# Altium schematic symbol library IC. RF transceiver.SchLib: 7 symbols
Pins are listed as number, name and electrical type; pins without a type are passive.

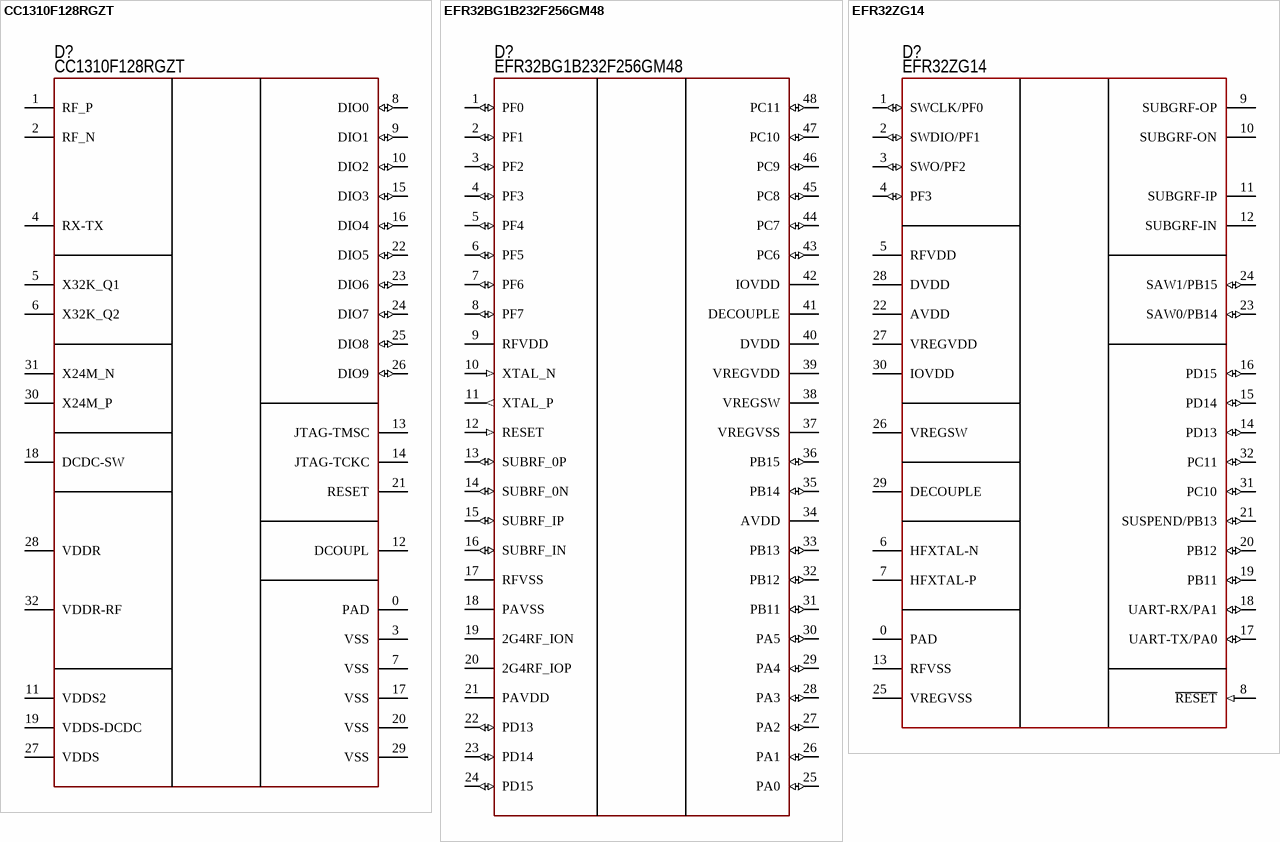
[diagram p0: symbols CC1310F128RGZT to EFR32ZG14]

## CC1310F128RGZT
designator D?  PartNumber: CC1310F128RGZT
SUB; Manufacturer: Texas Instruments; ValueManufacturerPartNumber: IC RF transceiver, 300...930 MHz, 32-Bit, Cortex-M3, core 48 MHz, 128KB, 20KB, 1.8...3.8V, -40...+85°C, 48-VFQFN; Supply: 1.8...3.8V; CoreSpeed: core 48 MHz; CoreSize: 32-Bit; MemoryROM: 128KB; MemoryRAM: 20KB; CoreProcessor: Cortex-M3; Frequency: 300...930 MHz; HelpURL: https://www.digikey.com/product-detail/en/texas-instruments/CC1310F128RGZT/296-42989-1-ND/5641860; Package: 48-VFQFN; ComponentType: IC RF transceiver; Temperature: -40...+85°C
footprint 48-QFN (7x7) (7x7 mm, pitch 0.5 mm, power pad)
pins: 0 PAD, 1 RF_P, 2 RF_N, 3 VSS, 4 RX-TX, 5 X32K_Q1, 6 X32K_Q2, 7 VSS, 8 DIO0 (io), 9 DIO1 (io), 10 DIO2 (io), 11 VDDS2, 12 DCOUPL, 13 JTAG-TMSC, 14 JTAG-TCKC, 15 DIO3 (io), 16 DIO4 (io), 17 VSS, 18 DCDC-SW, 19 VDDS-DCDC, 20 VSS, 21 RESET, 22 DIO5 (io), 23 DIO6 (io), 24 DIO7 (io), 25 DIO8 (io), 26 DIO9 (io), 27 VDDS, 28 VDDR, 29 VSS, 30 X24M_P, 31 X24M_N, 32 VDDR-RF

## EFR32BG1B232F256GM48
designator D?  PartNumber: EFR32BG1B232F256GM48
BLE+SUB; Manufacturer: Silicon Labs; ValueManufacturerPartNumber: IC RF transceiver, 169...930 MHz / BLE4.0, 32-Bit, Cortex-M4, core 48 MHz, 256KB, 32KB, 1.85...3.8V, -40...+85°C, 48-VFQFN; Supply: 1.85...3.8V; CoreSpeed: core 48 MHz; CoreSize: 32-Bit; MemoryROM: 256KB; MemoryRAM: 32KB; CoreProcessor: Cortex-M4; Frequency: 169...930 MHz / BLE4.0; HelpURL: https://www.digikey.com/product-detail/en/silicon-labs/EFR32BG1B232F256GM48-C0/336-3745-ND/6123008; Package: 48-VFQFN; ComponentType: IC RF transceiver; Temperature: -40...+85°C
footprint 48-QFN (7x7) (7x7 mm, pitch 0.5 mm, power pad)
pins: 1 PF0 (io), 2 PF1 (io), 3 PF2 (io), 4 PF3 (io), 5 PF4 (io), 6 PF5 (io), 7 PF6 (io), 8 PF7 (io), 9 RFVDD, 10 XTAL_N (in), 11 XTAL_P (out), 12 RESET (in), 13 SUBRF_0P (io), 14 SUBRF_0N (io), 15 SUBRF_IP (io), 16 SUBRF_IN (io), 17 RFVSS, 18 PAVSS, 19 2G4RF_ION, 20 2G4RF_IOP, 21 PAVDD, 22 PD13 (io), 23 PD14 (io), 24 PD15 (io), 25 PA0 (io), 26 PA1 (io), 27 PA2 (io), 28 PA3 (io), 29 PA4 (io), 30 PA5 (io), 31 PB11 (io), 32 PB12 (io), 33 PB13 (io), 34 AVDD, 35 PB14 (io), 36 PB15 (io), 37 VREGVSS, 38 VREGSW, 39 VREGVDD, 40 DVDD, 41 DECOUPLE, 42 IOVDD, 43 PC6 (io), 44 PC7 (io), 45 PC8 (io), 46 PC9 (io), 47 PC10 (io), 48 PC11 (io)

## EFR32ZG14
designator D?  PartNumber: EFR32ZG14
SUB; Manufacturer: Silicon Labs; ValueManufacturerPartNumber: IC RF transceiver, Z-Wave, 863...930 MHz, 32-Bit, Cortex-M3, 256KB, 32KB, 1.8...3.8V, -40...+85°C, 32-VFQFN; Supply: 1.8...3.8V; CoreSpeed: 48 MHz; CoreSize: 32-Bit; MemoryROM: 256KB; MemoryRAM: 32KB; CoreProcessor: Cortex-M3; Frequency: 863...930 MHz; TypeProtocol: Z-Wave; HelpURL: https://www.digikey.com/product-detail/en/texas-instruments/CC1310F128RGZT/296-42989-1-ND/5641860; Package: 32-VFQFN; ComponentType: IC RF transceiver; Temperature: -40...+85°C
footprint 32-QFN (5x5 mm, pitch 0.5 mm, power pad)
pins: 0 PAD, 1 SWCLK/PF0 (io), 2 SWDIO/PF1 (io), 3 SWO/PF2 (io), 4 PF3 (io), 5 RFVDD, 6 HFXTAL-N, 7 HFXTAL-P, 8 ~{RESET} (in), 9 SUBGRF-OP, 10 SUBGRF-ON, 11 SUBGRF-IP, 12 SUBGRF-IN, 13 RFVSS, 14 PD13 (io), 15 PD14 (io), 16 PD15 (io), 17 UART-TX/PA0 (io), 18 UART-RX/PA1 (io), 19 PB11 (io), 20 PB12 (io), 21 SUSPEND/PB13 (io), 22 AVDD, 23 SAW0/PB14 (io), 24 SAW1/PB15 (io), 25 VREGVSS, 26 VREGSW, 27 VREGVDD, 28 DVDD, 29 DECOUPLE, 30 IOVDD, 31 PC10 (io), 32 PC11 (io)

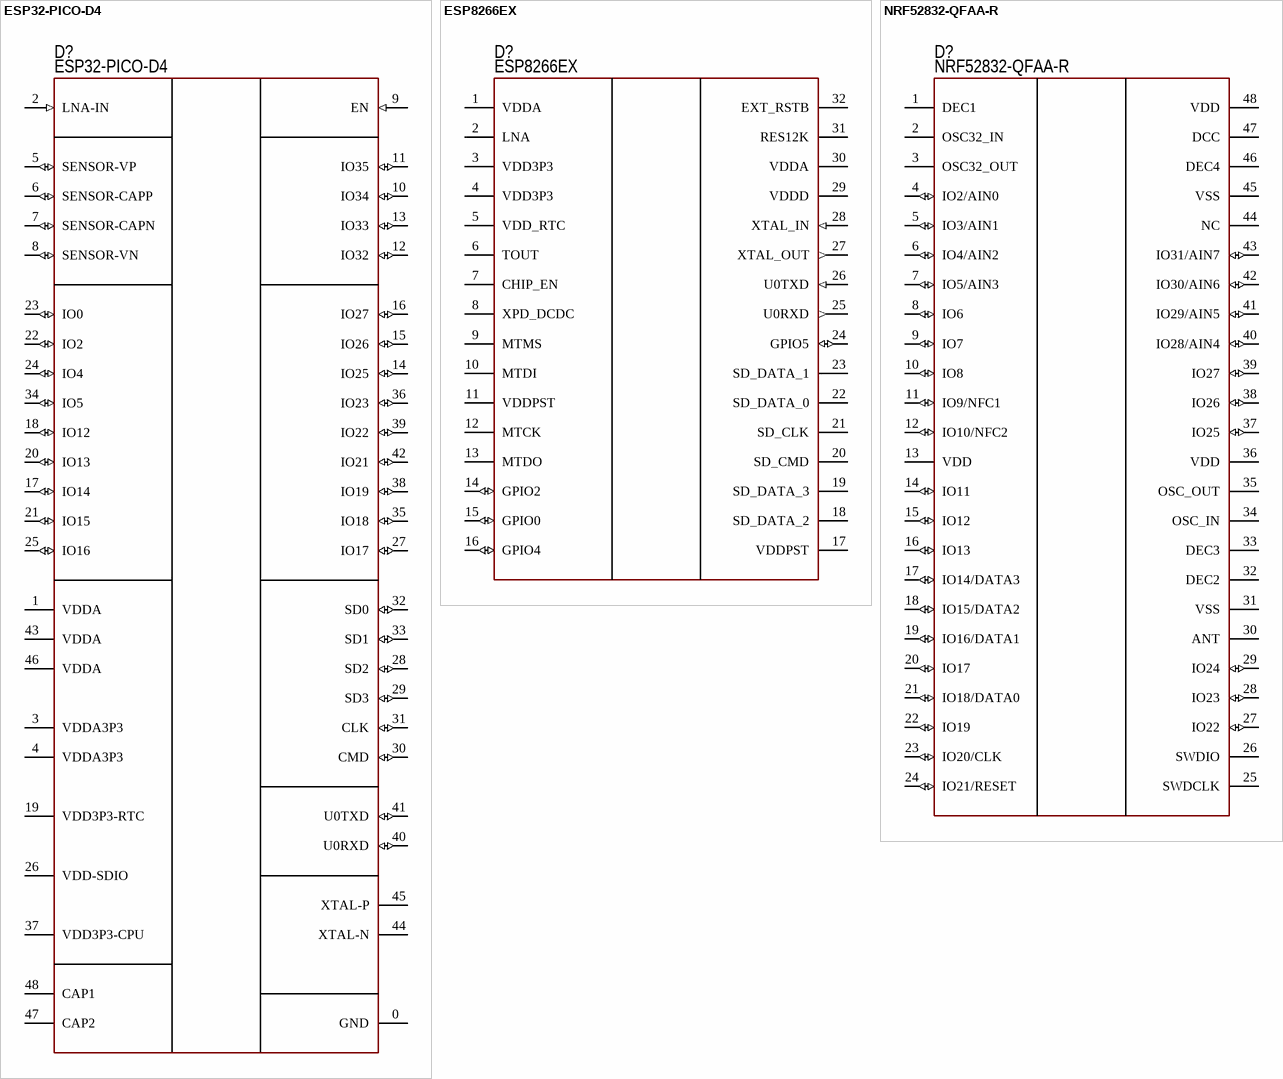
[diagram p1: symbols ESP32-PICO-D4 to NRF52832-QFAA-R]

## ESP32-PICO-D4
designator D?  PartNumber: ESP32-PICO-D4
Wi-Fi+BT; Manufacturer: Espressif Systems; ValueManufacturerPartNumber: IC RF transceiver, 802.11b/g/n + Bluetooth v4.2, 2.4GHz, 32-Bit, Xtensa LX6, 4Mb, 520KB, 2.7...3.6V, -40...+85°C, 48-LGA; Supply: 2.7...3.6V; CoreSpeed: 600 DMIPS; CoreSize: 32-Bit; MemoryROM: 4Mb; MemoryRAM: 520KB; CoreProcessor: Xtensa LX6; Frequency: 2.4GHz; TypeProtocol: 802.11b/g/n + Bluetooth v4.2; HelpURL: https://www.digikey.com/product-detail/en/espressif-systems/ESP32-PICO-D4/1904-1029-1-ND/9381738; Package: 48-LGA; ComponentType: IC RF transceiver; Temperature: -40...+85°C
footprint 48-LGA (7x7) (7x7 mm, pitch 0.5 mm, power pad)
pins: 0 GND, 1 VDDA, 2 LNA-IN (in), 3 VDDA3P3, 4 VDDA3P3, 5 SENSOR-VP (io), 6 SENSOR-CAPP (io), 7 SENSOR-CAPN (io), 8 SENSOR-VN (io), 9 EN (in), 10 IO34 (io), 11 IO35 (io), 12 IO32 (io), 13 IO33 (io), 14 IO25 (io), 15 IO26 (io), 16 IO27 (io), 17 IO14 (io), 18 IO12 (io), 19 VDD3P3-RTC, 20 IO13 (io), 21 IO15 (io), 22 IO2 (io), 23 IO0 (io), 24 IO4 (io), 25 IO16 (io), 26 VDD-SDIO, 27 IO17 (io), 28 SD2 (io), 29 SD3 (io), 30 CMD (io), 31 CLK (io), 32 SD0 (io), 33 SD1 (io), 34 IO5 (io), 35 IO18 (io), 36 IO23 (io), 37 VDD3P3-CPU, 38 IO19 (io), 39 IO22 (io), 40 U0RXD (io), 41 U0TXD (io), 42 IO21 (io), 43 VDDA, 44 XTAL-N, 45 XTAL-P, 46 VDDA, 47 CAP2, 48 CAP1

## ESP8266EX
designator D?  PartNumber: ESP8266EX
Wi-Fi; Manufacturer: Espressif Systems; ValueManufacturerPartNumber: IC RF transceiver, 802.11b/g/n, 2.4GHz, 32-Bit, Cortex-M3, External FLASH, 50KB, 2.5...3.6V, -40...+85°C, 32-VFQFN; Supply: 2.5...3.6V; CoreSpeed: 160 MHz; CoreSize: 32-Bit; MemoryROM: External FLASH; MemoryRAM: 50KB; CoreProcessor: Cortex-M3; Frequency: 2.4GHz; TypeProtocol: 802.11b/g/n; HelpURL: https://www.digikey.com/product-detail/en/espressif-systems/ESP8266EX/1904-1001-1-ND/8028408; Package: 32-VFQFN; ComponentType: IC RF transceiver; Temperature: -40...+85°C
footprint 32-QFN (5x5 mm, pitch 0.5 mm, power pad)
pins: 1 VDDA, 2 LNA, 3 VDD3P3, 4 VDD3P3, 5 VDD_RTC, 6 TOUT, 7 CHIP_EN, 8 XPD_DCDC, 9 MTMS, 10 MTDI, 11 VDDPST, 12 MTCK, 13 MTDO, 14 GPIO2 (io), 15 GPIO0 (io), 16 GPIO4 (io), 17 VDDPST, 18 SD_DATA_2, 19 SD_DATA_3, 20 SD_CMD, 21 SD_CLK, 22 SD_DATA_0, 23 SD_DATA_1, 24 GPIO5 (io), 25 U0RXD (out), 26 U0TXD (in), 27 XTAL_OUT (out), 28 XTAL_IN (in), 29 VDDD, 30 VDDA, 31 RES12K, 32 EXT_RSTB

## NRF52832-QFAA-R
designator D?  PartNumber: NRF52832-QFAA-R
BLE; Manufacturer: Nordic Semiconductor; ValueManufacturerPartNumber: IC RF transceiver, 2.4 GHz (BLE v4.1), 32-Bit, Cortex-M4, 64 MHz, 512KB, 64KB, 1.7...3.6V, -40...+85°C, 48-VFQFN; Supply: 1.7...3.6V; CoreSpeed: 64 MHz; CoreSize: 32-Bit; MemoryROM: 512KB; MemoryRAM: 64KB; CoreProcessor: Cortex-M4; Frequency: 2.4 GHz (BLE v4.1); HelpURL: https://www.digikey.com/product-detail/en/nordic-semiconductor-asa/NRF52832-QFAA-R/1490-1052-1-ND/5428660; Package: 48-VFQFN; ComponentType: IC RF transceiver; Temperature: -40...+85°C
footprint 48-QFN (6x6) (6x6 mm, pitch 0.4 mm, power pad)
pins: 1 DEC1, 2 OSC32_IN, 3 OSC32_OUT, 4 IO2/AIN0 (io), 5 IO3/AIN1 (io), 6 IO4/AIN2 (io), 7 IO5/AIN3 (io), 8 IO6 (io), 9 IO7 (io), 10 IO8 (io), 11 IO9/NFC1 (io), 12 IO10/NFC2 (io), 13 VDD, 14 IO11 (io), 15 IO12 (io), 16 IO13 (io), 17 IO14/DATA3 (io), 18 IO15/DATA2 (io), 19 IO16/DATA1 (io), 20 IO17 (io), 21 IO18/DATA0 (io), 22 IO19 (io), 23 IO20/CLK (io), 24 IO21/RESET (io), 25 SWDCLK, 26 SWDIO, 27 IO22 (io), 28 IO23 (io), 29 IO24 (io), 30 ANT, 31 VSS, 32 DEC2, 33 DEC3, 34 OSC_IN, 35 OSC_OUT, 36 VDD, 37 IO25 (io), 38 IO26 (io), 39 IO27 (io), 40 IO28/AIN4 (io), 41 IO29/AIN5 (io), 42 IO30/AIN6 (io), 43 IO31/AIN7 (io), 44 NC, 45 VSS, 46 DEC4, 47 DCC, 48 VDD

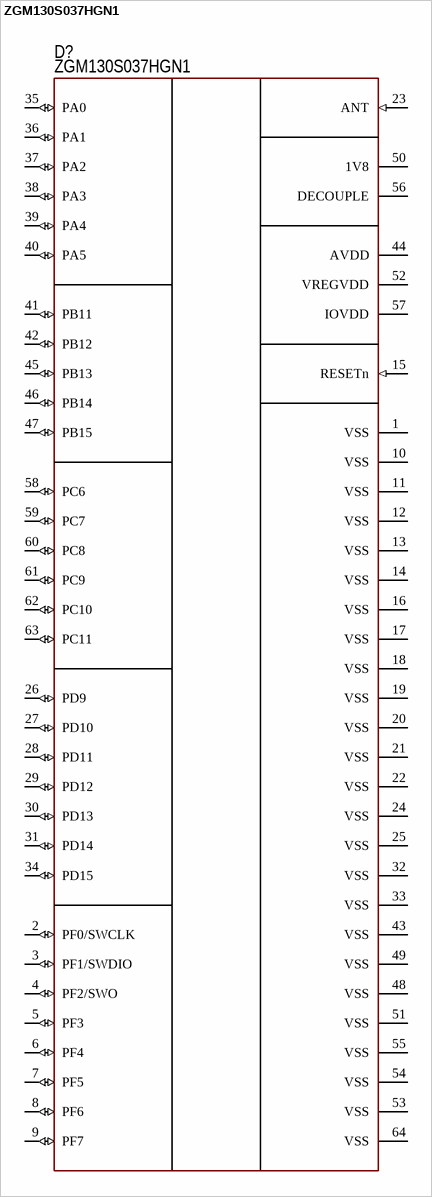
[diagram p2: symbol ZGM130S037HGN1]

## ZGM130S037HGN1
designator D?  PartNumber: ZGM130S037HGN1
SUB; Manufacturer: Silicon Labs; ValueManufacturerPartNumber: IC RF transceiver, Z-Wave, 863...930 MHz, 32-Bit, Cortex-M4, 512KB, 64KB, 1.8...5.5V, -40...+85°C, 64-LFLGA; Supply: 1.8...5.5V; CoreSpeed: 39 MHz; CoreSize: 32-Bit; MemoryROM: 512KB; MemoryRAM: 64KB; CoreProcessor: Cortex-M4; Frequency: 863...930 MHz; TypeProtocol: Z-Wave; HelpURL: https://www.digikey.com/product-detail/en/silicon-labs/ZGM130S037HGN1/336-5891-ND/9867096; Package: 64-LFLGA; ComponentType: IC RF transceiver; Temperature: -40...+85°C
footprint 64-LGA (9x9 mm, pitch 0.5 mm)
pins: 1 VSS, 2 PF0/SWCLK (io), 3 PF1/SWDIO (io), 4 PF2/SWO (io), 5 PF3 (io), 6 PF4 (io), 7 PF5 (io), 8 PF6 (io), 9 PF7 (io), 10 VSS, 11 VSS, 12 VSS, 13 VSS, 14 VSS, 15 RESETn (in), 16 VSS, 17 VSS, 18 VSS, 19 VSS, 20 VSS, 21 VSS, 22 VSS, 23 ANT (in), 24 VSS, 25 VSS, 26 PD9 (io), 27 PD10 (io), 28 PD11 (io), 29 PD12 (io), 30 PD13 (io), 31 PD14 (io), 32 VSS, 33 VSS, 34 PD15 (io), 35 PA0 (io), 36 PA1 (io), 37 PA2 (io), 38 PA3 (io), 39 PA4 (io), 40 PA5 (io), 41 PB11 (io), 42 PB12 (io), 43 VSS, 44 AVDD, 45 PB13 (io), 46 PB14 (io), 47 PB15 (io), 48 VSS, 49 VSS, 50 1V8, 51 VSS, 52 VREGVDD, 53 VSS, 54 VSS, 55 VSS, 56 DECOUPLE, 57 IOVDD, 58 PC6 (io), 59 PC7 (io), 60 PC8 (io), 61 PC9 (io), 62 PC10 (io), 63 PC11 (io), 64 VSS